# Altium schematic symbol library Molex Minifit 3x2.SchLib: 1 symbol
Pins are listed as number, name and electrical type; pins without a type are passive.

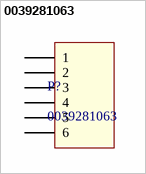
[diagram p0: symbol 0039281063]

## 0039281063
designator P?
CONN HEADER VERT 6POS 4.2MM
footprint Molex Minifit 3x2 (CONN HEADER VERT 6POS 4.2MM)
pins: 1, 2, 3, 4, 5, 6